# Altium footprint library airu-board.PCBLIB: 118 footprints (part 1 of 8)
Each footprint in its own frame and in the unit in brackets; x right, y up, seen from the top. Pads: shape width x height; smd on the part's side, far side on the other; paste and mask are expansions set on the pad; w line width, h text height; cw(c..) or ccw(c..) is an arc to the next point about the centre after c.
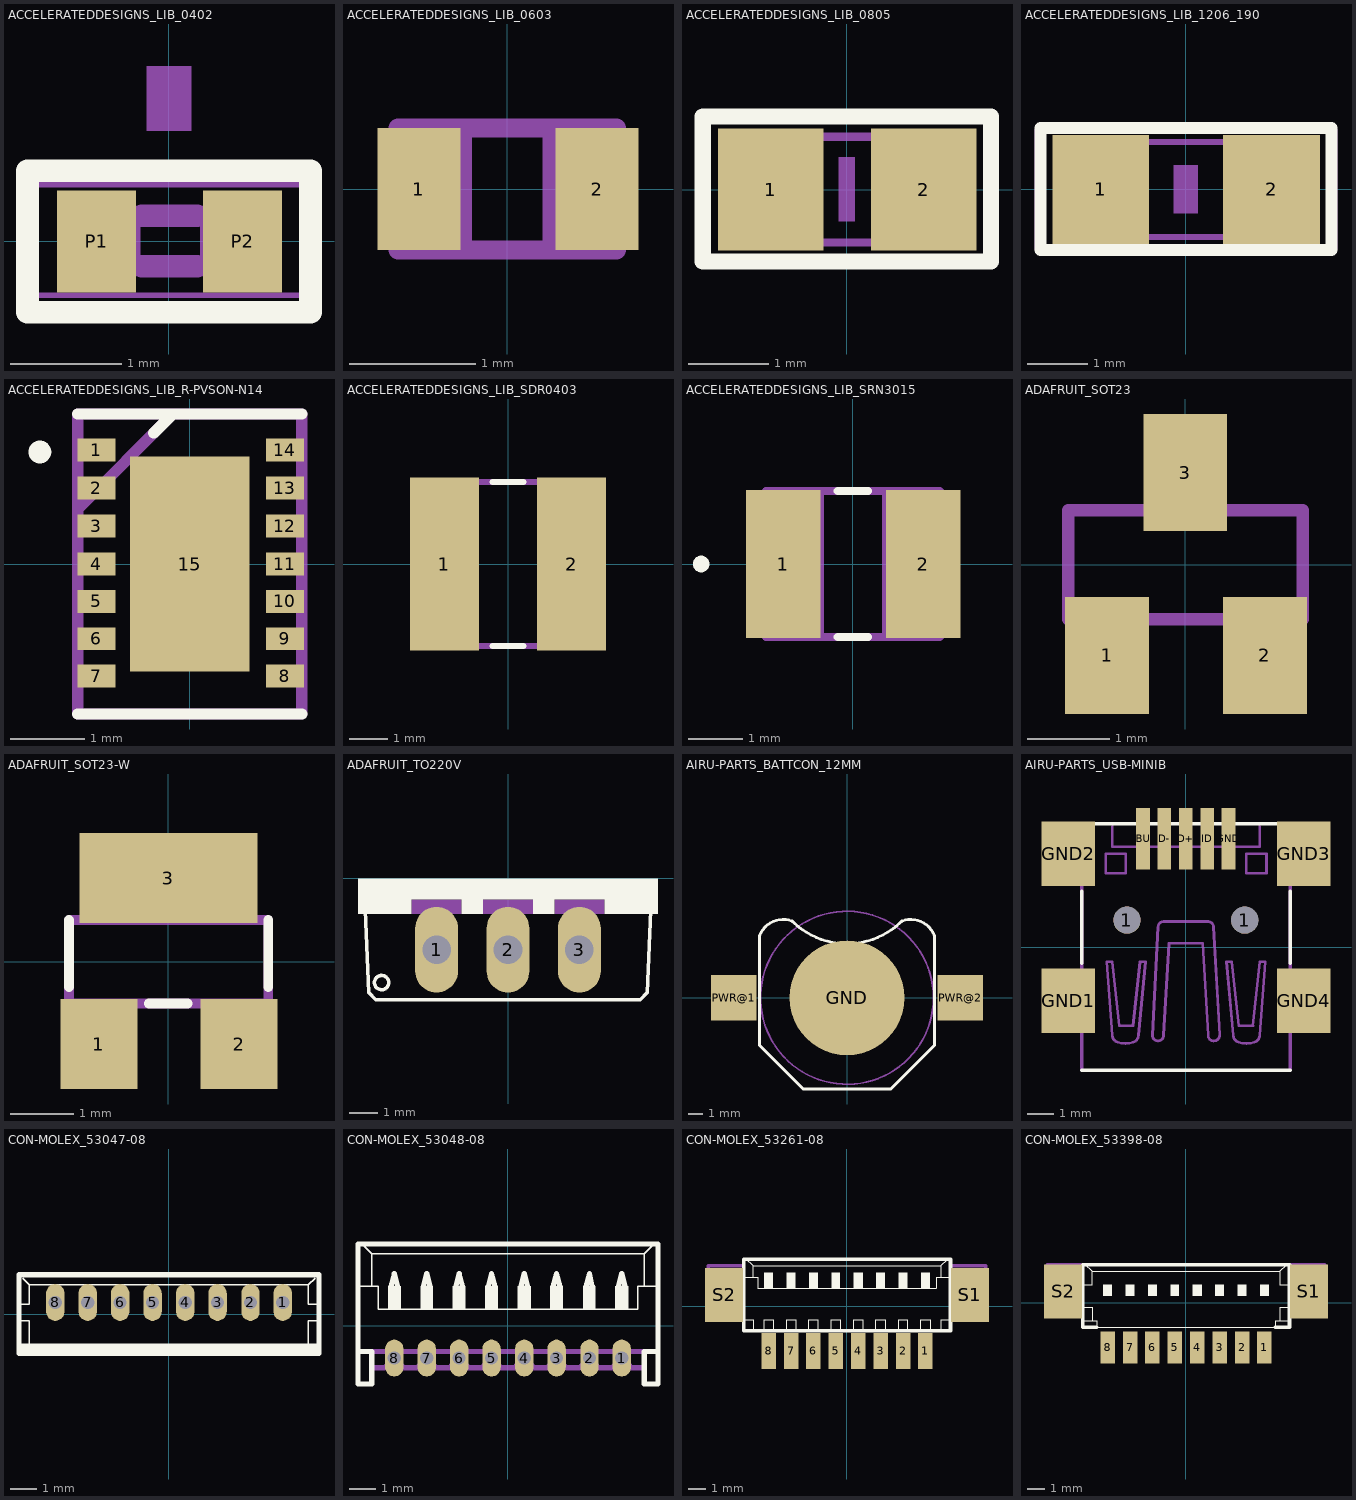
[diagram p0: the footprints below, top view; thin cyan lines are the x and y axes]

## ACCELERATEDDESIGNS_LIB_0402 [mil]
pads (2):
  rect 28x36 smd: P1(-25.59,0) P2(26,0)
Top Overlay:
  lines w8: -50,-25 -50,25 50,25 50,-25 -50,-25
Mechanical 6:
  rectangle: -7.87,39 8,62
Mechanical 16:
  rectangle: -21.81,-12 -10,12
  rectangle: 11,-12 22,12
  lines w8: -9.65,-8.82 10,-8.82 ; -9.65,9 10,9
Mechanical 27:
  lines w2: -52.99,-19.02 53,-19.02 53,20 -52.99,20 -52.99,-19.02

## ACCELERATEDDESIGNS_LIB_0603 [mil]
pads (2):
  rect 26x38 smd: 1(-27.5,0) 2(28,0)
Mechanical 2:
  lines w6: -14,-19 -14,19 ; -14,-19 -34,-19 -34,19 -14,19 ; -14,-19 14,-19 ; -14,19 14,19 ; 14,-19 14,19 ; 14,-19 34,-19 34,19 14,19

## ACCELERATEDDESIGNS_LIB_0805 [mil]
pads (2):
  rect 52x60 smd: 1(-37.4,0) 2(38,0)
Top Overlay:
  lines w8: -70.87,-35.43 71,-35.43 71,36 -70.87,36 -70.87,-35.43
Mechanical 6:
  rectangle: -3.94,-15.75 4,16
Mechanical 16:
  rectangle: -43,-28.5 -13.47,29
  rectangle: 14,-28.5 44,29
  lines w4: -15,26 15,26 ; -14.02,-25.98 15,-25.98
Mechanical 27:
  lines w2: -73.74,-34.76 74,-34.76 74,35 -73.74,35 -73.74,-34.76

## ACCELERATEDDESIGNS_LIB_1206_190 [mil]
pads (2):
  rect 63x71 smd: 1(-55.12,0) 2(56,0)
Top Overlay:
  lines w8: -94.49,-39.37 95,-39.37 95,40 -94.49,40 -94.49,-39.37
Mechanical 6:
  rectangle: -7.87,-15.75 8,16
Mechanical 16:
  rectangle: -67,-33.5 -37.47,34
  rectangle: 38,-33.43 67,34
  lines w4: -37.99,-30.98 38,-30.98 ; -37.99,31 38,31
Mechanical 27:
  lines w2: -97.36,-38.7 98,-38.7 98,39 -97.36,39 -97.36,-38.7

## ACCELERATEDDESIGNS_LIB_R-PVSON-N14 [mil]
pads (15):
  rect 20x12 smd: 1(-49.21,60) 2(-49.21,40) 3(-49.21,20) 4(-49.21,0) 5(-49.21,-19.68) 6(-49.21,-39.37) 7(-49.21,-59.06) 8(50,-59.06) 9(50,-39.37) 10(50,-19.68) 11(50,0) 12(50,20) 13(50,40) 14(50,60)
  rect 63x113 smd: 15(0,0)
Top Overlay:
  lines w6: -59,-79 59,-79 ; -59,79 59,79 ; -19,69 -9,79 ; -82,59 ccw(c-79,59) -76,59 ccw(c-79,59) -82,59
Top Paste:
  region: 0,0 10,0 10,10 0,10
  region: 0,0 10,0 10,10 0,10
Mechanical 2:
  lines w0: -82,59 ccw(c-79,59) -76,59 ccw(c-79,59) -82,59
  lines w6: -59,29 -9,79 ; -59,-79 59,-79 59,79 -59,79 -59,-79

## ACCELERATEDDESIGNS_LIB_SDR0403 [mil]
pads (2):
  rect 71x177 smd: 1(-65,0) 2(65,0)
Top Overlay:
  lines w6: -16,-84 16,-84 ; -16,84 16,84
Mechanical 2:
  lines w6: -94,-84 94,-84 94,84 -94,84 -94,-84

## ACCELERATEDDESIGNS_LIB_SRN3015 [mil]
pads (2):
  rect 54x107 smd: 1(-50.31,0) 2(51,0)
Top Overlay:
  lines w6: -11,-53 11,-53 ; -11,53 11,53 ; -113,0 ccw(c-110,0) -107,0 ccw(c-110,0) -113,0
Mechanical 2:
  lines w0: -113,0 ccw(c-110,0) -107,0 ccw(c-110,0) -113,0
  lines w6: -24,-53 -24,53 ; -24,-53 -63,-53 -63,53 -24,53 ; -24,-53 24,-53 ; -24,53 24,53 ; 24,-53 24,53 ; 24,-53 63,-53 63,53 24,53

## ADAFRUIT_SOT23 [mil]
pads (3):
  rect 40x56 smd: 1(-37.4,-43.31) 2(38,-43.31) 3(0,44)
Mechanical 16:
  rectangle: -9,28 9,51
  rectangle: 28,-51 46,-28
  rectangle: -46,-51 -28,-28
  lines w6: -56,-26 56,-26 56,26 -56,26 -56,-26

## ADAFRUIT_SOT23-W [mil]
pads (3):
  rect 48x56 smd: 1(-43.31,-51.18) 2(44,-51.18)
  rect 111x56 smd: 3(0,52)
Top Overlay:
  lines w6: -61.91,-15.69 -61.91,26 ; -12.18,-26 12,-26 ; 62,-15.69 62,26
Mechanical 16:
  rectangle: -9,28 9,51
  rectangle: 28,-51 46,-28
  rectangle: -46,-51 -28,-28
  lines w6: -61.91,-26 62,-26 62,26 -61.91,26 -61.91,-26

## ADAFRUIT_TO220V [mil]
pads (3):
  oval 60x120 hole 40: 1(-100,-100) 2(0,-100) 3(100,-100)
Top Overlay:
  circle w5: c-177,-146 r10
  rectangle: -210,-30 210,0
  rectangle: -210,-50 -135,-30
  rectangle: -65,-50 -35,-30
  rectangle: 35,-50 65,-30
  rectangle: 135,-50 210,-30
  lines w5: -200,-45 -195,-160 -185,-170 185,-170 195,-160 200,-45
Mechanical 16:
  rectangle: -135,-50 -65,-30
  rectangle: -35,-50 35,-30
  rectangle: 65,-50 135,-30
  text "1" at -125,-125 h77.5
  text "2" at -25,-125 h77.5
  text "3" at 75,-125 h77.5

## AIRU-PARTS_BATTCON_12MM [mil]
pads (3):
  rrect100% 315x315 smd: GND(0,0)
  rect 125x125 smd: PWR@1(-310,0) PWR@2(310,0)
Top Overlay:
  lines w8: -240,-130 -120,-250 120,-250 240,-130 240,170 ccw(c175,145) 150,210 cw(c0,360) -150,210 ccw(c-175,145) -240,170 -240,-130
Top Paste:
  circle w79: c0,0 r40
Mechanical 16:
  circle w5: c0,0 r237
Mechanical 27:
  circle w5: c0,0 r237

## AIRU-PARTS_USB-MINIB [mil]
pads (11):
  round 40 hole 40: 1(-86.61,40) 1(87,40)
  rect 20x91 smd: D+(0,160) D-(-31.5,160) GND(63,160) ID(32,160) VBUS(-62.99,160)
  rect 79x95 smd: GND1(-173.23,-78.74) GND2(-173.23,138) GND3(174,138) GND4(174,-78.74)
Top Overlay:
  lines w5: -153.54,-181.1 154,-181.1 ; -153.54,-23.62 -153.54,83 ; -153.54,182 83,182 126,182 154,182 ; 154,-23.62 154,83
Mechanical 16:
  lines w4: -200,-105.12 -200,-91.34 ccw(c-200,-79.53) -200,-67.72 -200,-51.97 ; -200,113 -200,127 ccw(c-200,139) -200,151 -200,167 ; -199.21,-105.49 -153.94,-105.49 ; -199.21,-51.21 -153.94,-51.21 ; -199.21,113 -153.94,113 ; -199.21,167 -153.94,167 ; -108.27,178 -108.27,148 109,148 109,178 ; -40.88,-138.04 cw(c-40.88,-129.86) -49.05,-129.86 -40.88,30 cw(c-32.33,29.44) -32.7,38 33,38 cw(c32.54,29.54) 41,30 50,-129.86 cw(c41.41,-129.45) 41,-138.04 cw(c41.09,-129.95) 33,-129.86 25,6 -24.54,6 -32.7,-129.86 cw(c-40.87,-129.86) -40.87,-138.04 ; 153,-104.69 199,-104.69 ; 153,-50.42 199,-50.42 ; 153,114 199,114 ; 153,168 199,168 199,154 ccw(c199,142) 199,130 199,115 ; 199,-103.94 199,-88.19 cw(c199,-76.38) 199,-64.57 199,-50.79 ; -118.11,109 -88.58,109 -88.58,138 -118.11,138 -118.11,109 ; -116.5,-21.54 -108.32,-129.86 ccw(c-96.75,-128.98) -100.15,-140.08 ccw(c-88.91,-103.42) -77.67,-140.08 ccw(c-81.06,-128.98) -69.49,-129.86 -59.27,-21.54 -67.45,-21.54 -77.67,-115.56 -98.11,-115.56 -108.32,-21.54 -116.5,-21.54 ; 60,-21.54 70,-129.86 ccw(c81.48,-129.11) 78,-140.08 ccw(c89.5,-102.58) 101,-140.08 ccw(c97.52,-129.11) 109,-129.86 117,-21.54 109,-21.54 99,-115.56 78,-115.56 68,-21.54 60,-21.54 ; 89,109 89,138 119,138 119,109 89,109
  lines w5: -153.54,-181.1 -153.54,-106.3 ; -153.54,-50.79 -153.54,111 ; -153.54,168 -153.54,182 ; 154,-181.1 154,-106.3 ; 154,-48.82 154,113 ; 154,170 154,182

## CON-MOLEX_53047-08 [mil]
pads (8):
  oval 28x56 hole 20: 1(173,18) 2(124,18) 3(74,18) 4(25,18) 5(-24.61,18) 6(-73.82,18) 7(-123.03,18) 8(-172.24,18)
Top Overlay:
  rectangle: -226.38,-59.06 227,-44.29
  lines w2: -226.38,-9.84 -211.61,-9.84 -211.61,-49.21 ; -226.38,15 -211.61,15 -211.61,45 ; -221.46,55 -211.61,45 ; 212,-49.21 212,-9.84 227,-9.84 ; 222,55 212,45 ; 227,15 212,15 212,45 ; -211.61,45 212,45
  lines w8: -227.36,-59.06 228,-59.06 228,60 -227.36,60 -227.36,-59.06

## CON-MOLEX_53048-08 [mil]
pads (8):
  oval 28x56 hole 20: 1(173,-49.21) 2(124,-49.21) 3(74,-49.21) 4(25,-49.21) 5(-24.61,-49.21) 6(-73.82,-49.21) 7(-123.03,-49.21) 8(-172.24,-49.21)
Top Overlay:
  rectangle: -182.09,25 -162.4,60
  rectangle: -132.87,25 -113.19,60
  rectangle: -83.66,25 -63.98,60
  rectangle: -34.45,25 -14.76,60
  rectangle: 15,25 35,60
  rectangle: 64,25 84,60
  rectangle: 114,25 133,60
  rectangle: 163,25 183,60
  lines w2: -226.38,60 -206.69,60 ; -221.46,124 -206.69,109 ; 222,124 207,109 ; 227,60 207,60 ; -206.69,60 -196.85,60 -196.85,25 197,25 197,60 207,60 ; -206.69,60 -206.69,109 ; -206.69,109 207,109 ; 207,60 207,109
  lines w8: -226.38,-39.37 -206.69,-39.37 -206.69,-88.58 -227.36,-88.58 -227.36,124 -221.46,124 222,124 228,124 228,-88.58 207,-88.58 207,-39.37 227,-39.37 ; -177.17,60 -172.24,79 -167.32,60 ; -127.95,60 -123.03,79 -118.11,60 ; -78.74,60 -73.82,79 -68.9,60 ; -29.53,60 -24.61,79 -19.68,60 ; 20,60 25,79 30,60 ; 69,60 74,79 79,60 ; 119,60 124,79 128,60 ; 168,60 173,79 178,60
Mechanical 16:
  rectangle: -182.09,-59.06 -162.4,-39.37
  rectangle: -132.87,-59.06 -113.19,-39.37
  rectangle: -83.66,-59.06 -63.98,-39.37
  rectangle: -34.45,-59.06 -14.76,-39.37
  rectangle: 15,-59.06 35,-39.37
  rectangle: 64,-59.06 84,-39.37
  rectangle: 114,-59.06 133,-39.37
  rectangle: 163,-59.06 183,-39.37
  lines w8: -206.69,-63.98 -187.01,-63.98 -182.09,-59.06 ; -206.69,-39.37 207,-39.37 ; -162.4,-59.06 -157.48,-63.98 -137.8,-63.98 -132.87,-59.06 ; -113.19,-59.06 -108.27,-63.98 -88.58,-63.98 -83.66,-59.06 ; -63.98,-59.06 -59.06,-63.98 -39.37,-63.98 -34.45,-59.06 ; -14.76,-59.06 -9.84,-63.98 10,-63.98 15,-59.06 ; 35,-59.06 40,-63.98 60,-63.98 64,-59.06 ; 84,-59.06 89,-63.98 109,-63.98 114,-59.06 ; 133,-59.06 138,-63.98 158,-63.98 163,-59.06 ; 183,-59.06 188,-63.98 207,-63.98

## CON-MOLEX_53261-08 [mil]
pads (10):
  rect 32x79 smd: 1(173,-98.43) 2(124,-98.43) 3(74,-98.43) 4(25,-98.43) 5(-24.61,-98.43) 6(-73.82,-98.43) 7(-123.03,-98.43) 8(-172.24,-98.43)
  rect 83x119 smd: S1(271,25) S2(-270.67,25)
Top Overlay:
  rectangle: -182.09,40 -162.4,74
  rectangle: -132.87,40 -113.19,74
  rectangle: -83.66,40 -63.98,74
  rectangle: -34.45,40 -14.76,74
  rectangle: 15,40 35,74
  rectangle: 64,40 84,74
  rectangle: 114,40 133,74
  rectangle: 163,40 183,74
  lines w2: -226.38,-29.53 -206.69,-29.53 -206.69,-54.13 ; -226.38,64 -206.69,64 ; -221.46,104 -206.69,89 ; -182.09,-49.21 -182.09,-29.53 -162.4,-29.53 -162.4,-49.21 ; -132.87,-49.21 -132.87,-29.53 -113.19,-29.53 -113.19,-49.21 ; -83.66,-49.21 -83.66,-29.53 -63.98,-29.53 -63.98,-49.21 ; -34.45,-49.21 -34.45,-29.53 -14.76,-29.53 -14.76,-49.21 ; 15,-49.21 15,-29.53 35,-29.53 35,-49.21 ; 64,-49.21 64,-29.53 84,-29.53 84,-49.21 ; 114,-49.21 114,-29.53 133,-29.53 133,-49.21 ; 163,-49.21 163,-29.53 183,-29.53 183,-49.21 ; 207,-54.13 207,-29.53 227,-29.53 ; 222,104 207,89 ; 227,64 207,64 ; -206.69,64 -196.85,64 -196.85,40 197,40 197,64 207,64 ; -206.69,64 -206.69,89 ; -206.69,89 207,89 ; 207,64 207,89
  lines w8: -227.36,-54.13 -206.69,-54.13 207,-54.13 228,-54.13 228,104 222,104 -221.46,104 -227.36,104 -227.36,-54.13
Mechanical 16:
  lines w8: -231.3,-29.53 -305.12,-29.53 -305.12,89 -231.3,89 ; 232,-29.53 306,-29.53 306,89 232,89
  text "1" at 247,-9.84 h117.8

## CON-MOLEX_53398-08 [mil]
pads (10):
  rect 32x71 smd: 1(173,-98.43) 2(124,-98.43) 3(74,-98.43) 4(25,-98.43) 5(-24.61,-98.43) 6(-73.82,-98.43) 7(-123.03,-98.43) 8(-172.24,-98.43)
  rect 83x119 smd: S1(271,25) S2(-270.67,25)
Top Overlay:
  rectangle: -182.09,15 -162.4,40
  rectangle: -132.87,15 -113.19,40
  rectangle: -83.66,15 -63.98,40
  rectangle: -34.45,15 -14.76,40
  rectangle: 15,15 35,40
  rectangle: 64,15 84,40
  rectangle: 114,15 133,40
  rectangle: 163,15 183,40
  lines w2: -226.38,-39.37 -206.69,-39.37 ; -226.38,-9.84 -206.69,-9.84 -206.69,-39.37 ; -226.38,40 -206.69,40 -206.69,69 ; -221.46,84 -206.69,69 ; 222,84 207,69 ; 227,-39.37 207,-39.37 ; 227,-9.84 207,-9.84 207,-39.37 ; 227,40 207,40 207,69 ; -206.69,-39.37 -196.85,-39.37 -196.85,-54.13 197,-54.13 197,-39.37 207,-39.37 ; -206.69,69 207,69
  lines w8: -196.85,-54.13 -227.36,-54.13 -227.36,84 -221.46,84 222,84 228,84 228,-54.13 197,-54.13
Mechanical 16:
  lines w8: -231.3,-29.53 -305.12,-29.53 -305.12,84 -231.3,84 ; 232,-29.53 306,-29.53 306,84 232,84
  text "1" at 247,-9.84 h117.8